# Altium schematic symbol library SMSA2812D.Schlib: 1 symbol
Pins are listed as number, name and electrical type; pins without a type are passive.

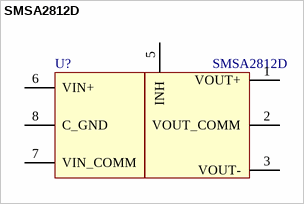
[diagram p0: symbol SMSA2812D]

## SMSA2812D
designator U?
Назначение: DC-DC преобразователь; Наименование: SMSA2812D
footprint SMSA 2805
pins: 1 VOUT+, 2 VOUT_COMM, 3 NC hidden, 3 VOUT-, 4 NC hidden, 5 INH, 6 VIN+, 7 VIN_COMM, 8 C_GND